# Altium footprint library Crystal.PcbLib: 3 footprints
Each footprint in its own frame and in the unit in brackets; x right, y up, seen from the top. Pads: shape width x height; smd on the part's side, far side on the other; paste and mask are expansions set on the pad; w line width, h text height; cw(c..) or ccw(c..) is an arc to the next point about the centre after c.
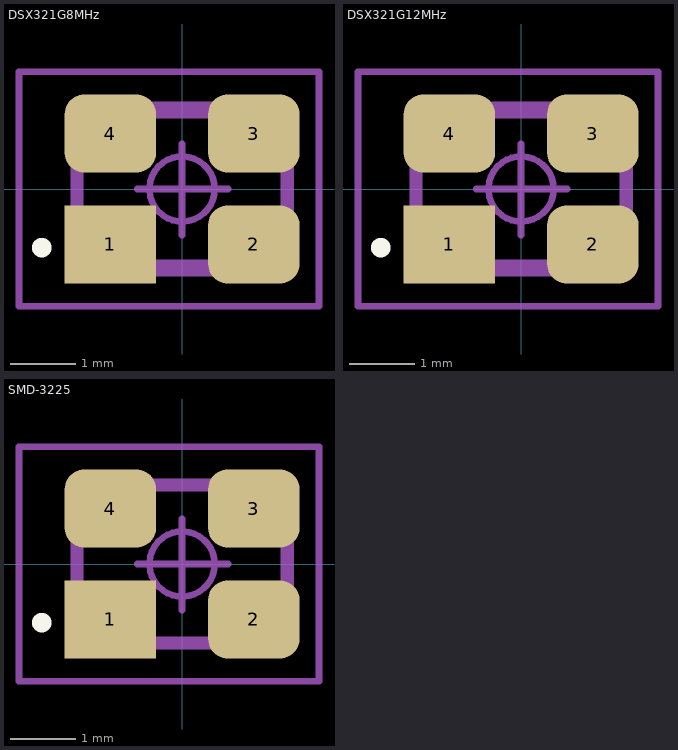
[diagram p0: the footprints below, top view; thin cyan lines are the x and y axes]

## DSX321G8MHz [mm]
pads (4):
  rect 1.4x1.2 smd: 1(-1.1,-0.85)
  rrect50% 1.4x1.2 smd: 2(1.1,-0.85) 3(1.1,0.85) 4(-1.1,0.85)
Top Overlay:
  lines w0.2: -2.2,-0.9 ccw(c-2.15,-0.9) -2.1,-0.9 ; -2.2,-0.9 cw(c-2.15,-0.9) -2.1,-0.9 ; -2.2,-0.9 ccw(c-2.15,-0.9) -2.1,-0.9
Top Assembly:
  lines w0.127: -1.65,-1.125 cw(c-1.65,-1.275) -1.5,-1.275 1.5,-1.275 cw(c1.65,-1.275) 1.65,-1.125 1.65,1.075 cw(c1.65,1.225) 1.5,1.225 -1.5,1.225 cw(c-1.65,1.225) -1.65,1.075 -1.65,-1.125 ; -1.65,-1.075 cw(c-1.65,-1.225) -1.5,-1.225 1.5,-1.225 cw(c1.65,-1.225) 1.65,-1.075 1.65,1.125 cw(c1.65,1.275) 1.5,1.275 -1.5,1.275 cw(c-1.65,1.275) -1.65,1.125 -1.65,-1.075 ; -1.571,-1.048 ccw(c-1.421,-1.048) -1.421,-1.198 1.421,-1.198 ccw(c1.421,-1.048) 1.571,-1.048 1.571,0.998 ccw(c1.421,0.998) 1.421,1.148 -1.421,1.148 ccw(c-1.421,0.998) -1.571,0.998 -1.571,-1.048 ; -1.571,-0.998 ccw(c-1.421,-0.998) -1.421,-1.148 1.421,-1.148 ccw(c1.421,-0.998) 1.571,-0.998 1.571,1.048 ccw(c1.421,1.048) 1.421,1.198 -1.421,1.198 ccw(c-1.421,1.048) -1.571,1.048 -1.571,-0.998
Top Component Outline:
  lines w0.1: -2.5,-1.8 2.1,-1.8 2.1,1.8 -2.5,1.8 -2.5,-1.8
Top Component Center:
  circle w0.1: c0,0 r0.5
  lines w0.1: -0.686,0 0.711,0 ; -0.001,-0.706 -0.001,0.691
3D body "DSX321G8MHz.stp": height 0.9, standoff 0, extent -1.65,-1.25 1.65,1.25

## DSX321G12MHz [mm]
pads (4):
  rect 1.4x1.2 smd: 1(-1.1,-0.85)
  rrect50% 1.4x1.2 smd: 2(1.1,-0.85) 3(1.1,0.85) 4(-1.1,0.85)
Top Overlay:
  lines w0.2: -2.2,-0.9 ccw(c-2.15,-0.9) -2.1,-0.9 ; -2.2,-0.9 cw(c-2.15,-0.9) -2.1,-0.9 ; -2.2,-0.9 ccw(c-2.15,-0.9) -2.1,-0.9
Top Assembly:
  lines w0.127: -1.65,-1.125 cw(c-1.65,-1.275) -1.5,-1.275 1.5,-1.275 cw(c1.65,-1.275) 1.65,-1.125 1.65,1.075 cw(c1.65,1.225) 1.5,1.225 -1.5,1.225 cw(c-1.65,1.225) -1.65,1.075 -1.65,-1.125 ; -1.65,-1.075 cw(c-1.65,-1.225) -1.5,-1.225 1.5,-1.225 cw(c1.65,-1.225) 1.65,-1.075 1.65,1.125 cw(c1.65,1.275) 1.5,1.275 -1.5,1.275 cw(c-1.65,1.275) -1.65,1.125 -1.65,-1.075 ; -1.571,-1.048 ccw(c-1.421,-1.048) -1.421,-1.198 1.421,-1.198 ccw(c1.421,-1.048) 1.571,-1.048 1.571,0.998 ccw(c1.421,0.998) 1.421,1.148 -1.421,1.148 ccw(c-1.421,0.998) -1.571,0.998 -1.571,-1.048 ; -1.571,-0.998 ccw(c-1.421,-0.998) -1.421,-1.148 1.421,-1.148 ccw(c1.421,-0.998) 1.571,-0.998 1.571,1.048 ccw(c1.421,1.048) 1.421,1.198 -1.421,1.198 ccw(c-1.421,1.048) -1.571,1.048 -1.571,-0.998
Top Component Outline:
  lines w0.1: -2.5,-1.8 -2.5,1.8 2.1,1.8 2.1,-1.8 -2.5,-1.8
Top Component Center:
  circle w0.1: c0,0 r0.5
  lines w0.1: -0.686,0 0.711,0 ; -0.001,-0.706 -0.001,0.691
3D body "DSX321G-12MHz.stp": height 1.1, standoff 0, extent -1.68,-1.33 1.68,1.33

## SMD-3225 [mm]
pads (4):
  rect 1.4x1.2 smd: 1(-1.1,-0.85)
  rrect50% 1.4x1.2 smd: 2(1.1,-0.85) 3(1.1,0.85) 4(-1.1,0.85)
Top Overlay:
  lines w0.2: -2.2,-0.9 ccw(c-2.15,-0.9) -2.1,-0.9 ; -2.2,-0.9 cw(c-2.15,-0.9) -2.1,-0.9 ; -2.2,-0.9 ccw(c-2.15,-0.9) -2.1,-0.9
Top Assembly:
  lines w0.127: -1.65,-1.1 cw(c-1.65,-1.25) -1.5,-1.25 1.5,-1.25 cw(c1.65,-1.25) 1.65,-1.1 1.65,1.1 cw(c1.65,1.25) 1.5,1.25 -1.5,1.25 cw(c-1.65,1.25) -1.65,1.1 -1.65,-1.1 ; -1.571,-1.023 ccw(c-1.421,-1.023) -1.421,-1.173 1.421,-1.173 ccw(c1.421,-1.023) 1.571,-1.023 1.571,1.023 ccw(c1.421,1.023) 1.421,1.173 -1.421,1.173 ccw(c-1.421,1.023) -1.571,1.023 -1.571,-1.023
Top Component Outline:
  lines w0.1: -2.5,-1.8 2.1,-1.8 2.1,1.8 -2.5,1.8 -2.5,-1.8
Top Component Center:
  circle w0.1: c0,0 r0.5
  lines w0.1: -0.686,0 0.711,0 ; -0.001,-0.706 -0.001,0.691
3D body "DSX321G-12MHz.stp": height 1.1, standoff 0, extent -1.68,-1.33 1.68,1.33